# Altium integrated library ST Video MPEG Audio Video Decoder.IntLib: 2 symbols
Pins are listed as number, name and electrical type; pins without a type are passive.

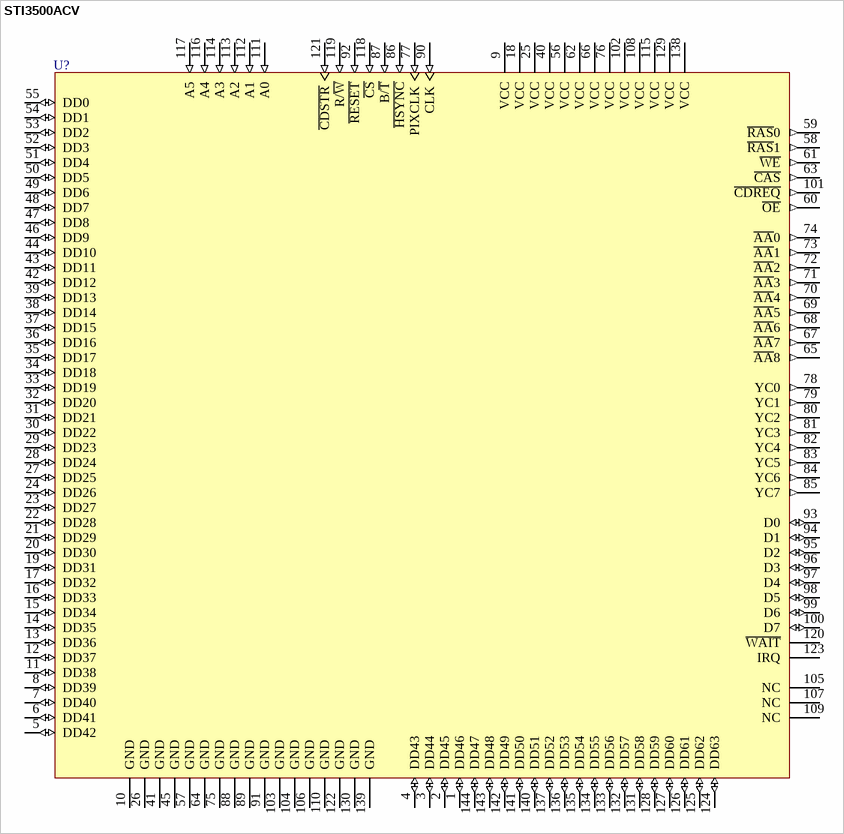
[diagram p0: symbol STI3500ACV]

## STI3500ACV
designator U?
MPEG-2/CCIR 601 Video Decoder; Published: 24-Aug-2001; LatestRevisionDate: 13-Apr-2006; LatestRevisionNote: IPC-7351 Footprint Added.; DatasheetVersion: Jun-1995; PackageVersion: Jun-2002; PackageReference: PQFP144; Publisher: Altium Limited; PackageDescription: 144-Pin Quad Flat Pack 0.65 mm Pitch; Code_IPC: QFP65P3120X3120-144; ComponentLink1Description: Manufacturer Link; ComponentLink1URL: http://www.st.com/
footprint PQFP144_N (QFP, 144-Leads, Body 28 x 28mm, Pitch 0.65mm, IPC Medium Density)
footprint PQFP144_L (QFP, 144-Leads, Body 28 x 28mm, Pitch 0.65mm, IPC High Density)
footprint PQFP144_M (QFP, 144-Leads, Body 28 x 28mm, Pitch 0.65mm, IPC Low Density)
3D model STi3500A-PQFP144 (144-Pin Quad Flat Pack 0.65 mm Pitch)
pins: 1 DD46 (io), 2 DD45 (io), 3 DD44 (io), 4 DD43 (io), 5 DD42 (io), 6 DD41 (io), 7 DD40 (io), 8 DD39 (io), 9 VCC (power), 10 GND (power), 11 DD38 (io), 12 DD37 (io), 13 DD36 (io), 14 DD35 (io), 15 DD34 (io), 16 DD33 (io), 17 DD32 (io), 18 VCC (power), 19 DD31 (io), 20 DD30 (io), 21 DD29 (io), 22 DD28 (io), 23 DD27 (io), 24 DD26 (io), 25 VCC (power), 26 GND (power), 27 DD25 (io), 28 DD24 (io), 29 DD23 (io), 30 DD22 (io), 31 DD21 (io), 32 DD20 (io), 33 DD19 (io), 34 DD18 (io), 35 DD17 (io), 36 DD16 (io), 37 DD15 (io), 38 DD14 (io), 39 DD13 (io), 40 VCC (power), 41 GND (power), 42 DD12 (io), 43 DD11 (io), 44 DD10 (io), 45 GND (power), 46 DD9 (io), 47 DD8 (io), 48 DD7 (io), 49 DD6 (io), 50 DD5 (io), 51 DD4 (io), 52 DD3 (io), 53 DD2 (io), 54 DD1 (io), 55 DD0 (io), 56 VCC (power), 57 GND (power), 58 ~{RAS}1 (out), 59 ~{RAS}0 (out), 60 ~{OE} (out), 61 ~{WE} (out), 62 VCC (power), 63 ~{CAS} (out), 64 GND (power), 65 ~{AA}8 (out), 66 VCC (power), 67 ~{AA}7 (out), 68 ~{AA}6 (out), 69 ~{AA}5 (out), 70 ~{AA}4 (out), 71 ~{AA}3 (out), 72 ~{AA}2 (out), 73 ~{AA}1 (out), 74 ~{AA}0 (out), 75 GND (power), 76 VCC (power), 77 PIXCLK (in), 78 YC0 (out), 79 YC1 (out), 80 YC2 (out), 81 YC3 (out), 82 YC4 (out), 83 YC5 (out), 84 YC6 (out), 85 YC7 (out), 86 ~{HSYNC} (in), 87 B/~{T} (in), 88 GND (power), 89 GND (power), 90 CLK (in), 91 GND (power), 92 ~{RESET} (in), 93 D0 (io), 94 D1 (io), 95 D2 (io), 96 D3 (io), 97 D4 (io), 98 D5 (io), 99 D6 (io), 100 D7 (io), 101 ~{CDREQ} (out), 102 VCC (power), 103 GND (power), 104 GND (power), 105 NC, 106 GND (power), 107 NC, 108 VCC (power), 109 NC, 110 GND (power), 111 A0 (in), 112 A1 (in), 113 A2 (in), 114 A3 (in), 115 VCC (power), 116 A4 (in), 117 A5 (in), 118 ~{CS} (in), 119 R/~{W} (in), 120 ~{WAIT} (hiz), 121 ~{CDSTR} (in), 122 GND (power), 123 IRQ (oc), 124 DD63 (io), 125 DD62 (io), 126 DD61 (io), 127 DD60 (io), 128 DD59 (io), 129 VCC (power), 130 GND (power), 131 DD58 (io), 132 DD57 (io), 133 DD56 (io), 134 DD55 (io), 135 DD54 (io), 136 DD53 (io), 137 DD52 (io), 138 VCC (power), 139 GND (power), 140 DD51 (io), 141 DD50 (io), 142 DD49 (io), 143 DD48 (io), 144 DD47 (io)

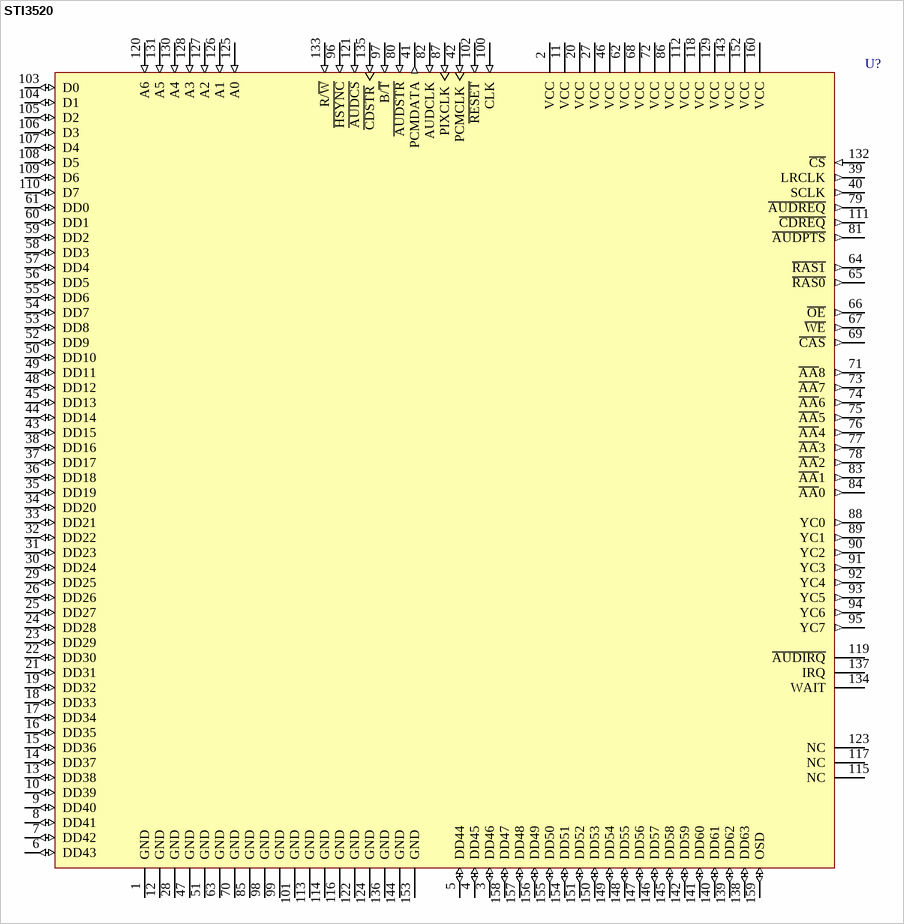
[diagram p1: symbol STI3520]

## STI3520
designator U?
MPEG Audio/MPEG-2 Video Integrated Decoder; Published: 24-Aug-2001; LatestRevisionDate: 13-Apr-2006; LatestRevisionNote: IPC-7351 Footprint Added.; DatasheetVersion: May-1995; PackageVersion: 1995; PackageReference: PQFP160; Publisher: Altium Limited; PackageDescription: 160-Pin Plastic Quad Flat Pack 0.65 mm Pitch; Code_IPC: QFP65P3120X3120-160; ComponentLink1Description: Manufacturer Link; ComponentLink1URL: http://www.st.com/
footprint PQFP160_N (QFP, 160-Leads, Body 28 x 28mm, Pitch 0.65mm, IPC Medium Density)
footprint PQFP160_L (QFP, 160-Leads, Body 28 x 28mm, Pitch 0.65mm, IPC High Density)
footprint PQFP160_M (QFP, 160-Leads, Body 28 x 28mm, Pitch 0.65mm, IPC Low Density)
3D model STi3520-PQFP160 (160-Pin Plastic Quad Flat Pack 0.65 mm Pitch)
pins: 1 GND (power), 2 VCC (power), 3 DD46 (io), 4 DD45 (io), 5 DD44 (io), 6 DD43 (io), 7 DD42 (io), 8 DD41 (io), 9 DD40 (io), 10 DD39 (io), 11 VCC (power), 12 GND (power), 13 DD38 (io), 14 DD37 (io), 15 DD36 (io), 16 DD35 (io), 17 DD34 (io), 18 DD33 (io), 19 DD32 (io), 20 VCC (power), 21 DD31 (io), 22 DD30 (io), 23 DD29 (io), 24 DD28 (io), 25 DD27 (io), 26 DD26 (io), 27 VCC (power), 28 GND (power), 29 DD25 (io), 30 DD24 (io), 31 DD23 (io), 32 DD22 (io), 33 DD21 (io), 34 DD20 (io), 35 DD19 (io), 36 DD18 (io), 37 DD17 (io), 38 DD16 (io), 39 LRCLK (out), 40 SCLK (out), 41 PCMDATA (out), 42 PCMCLK (in), 43 DD15 (io), 44 DD14 (io), 45 DD13 (io), 46 VCC (power), 47 GND (power), 48 DD12 (io), 49 DD11 (io), 50 DD10 (io), 51 GND (power), 52 DD9 (io), 53 DD8 (io), 54 DD7 (io), 55 DD6 (io), 56 DD5 (io), 57 DD4 (io), 58 DD3 (io), 59 DD2 (io), 60 DD1 (io), 61 DD0 (io), 62 VCC (power), 63 GND (power), 64 ~{RAS1} (out), 65 ~{RAS0} (out), 66 ~{OE} (out), 67 ~{WE} (out), 68 VCC (power), 69 ~{CAS} (out), 70 GND (power), 71 ~{AA}8 (out), 72 VCC (power), 73 ~{AA}7 (out), 74 ~{AA}6 (out), 75 ~{AA}5 (out), 76 ~{AA}4 (out), 77 ~{AA}3 (out), 78 ~{AA}2 (out), 79 ~{AUDREQ} (out), 80 ~{AUDSTR} (in), 81 ~{AUDPTS} (out), 82 AUDCLK (in), 83 ~{AA}1 (out), 84 ~{AA}0 (out), 85 GND (power), 86 VCC (power), 87 PIXCLK (in), 88 YC0 (out), 89 YC1 (out), 90 YC2 (out), 91 YC3 (out), 92 YC4 (out), 93 YC5 (out), 94 YC6 (out), 95 YC7 (out), 96 ~{HSYNC} (in), 97 B/~{T} (in), 98 GND (power), 99 GND (power), 100 CLK (in), 101 GND (power), 102 ~{RESET} (in), 103 D0 (io), 104 D1 (io), 105 D2 (io), 106 D3 (io), 107 D4 (io), 108 D5 (io), 109 D6 (io), 110 D7 (io), 111 ~{CDREQ} (out), 112 VCC (power), 113 GND (power), 114 GND (power), 115 NC, 116 GND (power), 117 NC, 118 VCC (power), 119 ~{AUDIRQ} (oc), 120 A6 (in), 121 ~{AUDCS} (in), 122 GND (power), 123 NC, 124 GND (power), 125 A0 (in), 126 A1 (in), 127 A2 (in), 128 A3 (in), 129 VCC (power), 130 A4 (in), 131 A5 (in), 132 ~{CS} (in), 133 R/~{W} (in), 134 WAIT (hiz), 135 ~{CDSTR} (in), 136 GND (power), 137 IRQ (oc), 138 DD63 (io), 139 DD62 (io), 140 DD61 (io), 141 DD60 (io), 142 DD59 (io), 143 VCC (power), 144 GND (power), 145 DD58 (io), 146 DD57 (io), 147 DD56 (io), 148 DD55 (io), 149 DD54 (io), 150 DD53 (io), 151 DD52 (io), 152 VCC (power), 153 GND (power), 154 DD51 (io), 155 DD50 (io), 156 DD49 (io), 157 DD48 (io), 158 DD47 (io), 159 OSD (io), 160 VCC (power)